# EAGLE library part LTC3536EMSE (library Oles komponentbibliotek)
1A Low Noise, Buck-Boost DC/DC Converter
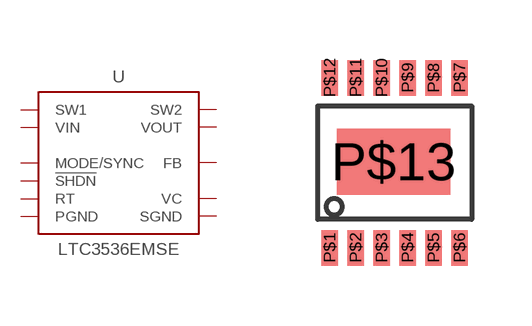
[diagram p64: symbol with the pads of MSOP12-SINK; footprint MSOP12-SINK]

Designator prefix U

## LTC3536EMSE  [MSOP12-SINK]
P$1  RT  in
P$2  SGND  pwr
P$3  MODE/SYNC  in
P$4  SW1  pas
P$5  PGND  pwr
P$6  SW2  pas
P$7  VOUT  pwr
P$8  VIN  pwr
P$9  VIN  pwr
P$10  !SHDN  in
P$11  FB  in
P$12  VC  in
P$13  PGND  pwr

## Footprint MSOP12-SINK (pad centres in mm)
smd 0.42 x 0.889: P$1 -1.3,-2.55; P$2 -0.65,-2.55; P$3 0,-2.55; P$4 0.65,-2.55; P$5 1.3,-2.55; P$6 1.95,-2.55; P$7 1.95,1.7; P$8 1.3,1.7; P$9 0.65,1.7; P$10 0,1.7; P$11 -0.65,1.7; P$12 -1.3,1.7
smd 2.845 x 1.651: P$13 0.3,-0.4